# EAGLE library part 750342655 (library wurth_electronics_midcom_inc_v2-1)
Package Style: EE25/13/7 Mounting: THT Pins: 10 pins Bobbin: 070-4846 Best pinouts for production vary per application. Please contact Wurth Electronics Midcom, Inc. for assistance with your custom design. Website: Wurth Electronics Midcom <http://www.we-online.com/midcom> Contact us Wurth Electronics Midcom, Inc. 121 Airport Dr. Watertown, SD 57201 Phone: (605) 886-4385 Fax: (605) 886-4486 E-Mail: midcom@we-online.com
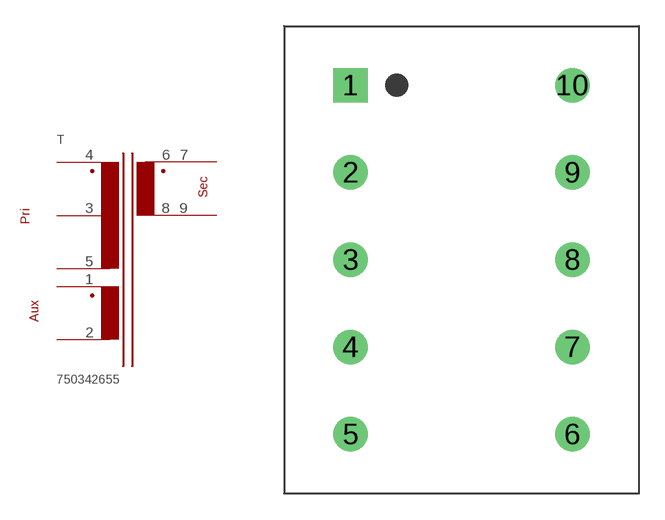
[diagram p75: symbol with the pads of EE25/13/7_THT_V_10PIN_(4846); footprint EE25/13/7_THT_V_10PIN_(4846)]

Designator prefix T

## 750342655  [EE25/13/7_THT_V_10PIN_(4846)]
1  1  pas
2  2  pas
3  3  pas
4  4  pas
5  5  pas
6  6  pas
7  7  pas
8  8  pas
9  9  pas

## Footprint EE25/13/7_THT_V_10PIN_(4846) (pad centres in mm)
Package Style: EE25/13/7 Mounting: THT Pins: 10 Bobbin: 070-4846
drill 1.321 square: 1 -6.35,10.008
drill 1.321: 2 -6.35,5.004; 3 -6.35,0; 4 -6.35,-5.004; 5 -6.35,-10.008; 6 6.35,-10.008; 7 6.35,-5.004; 8 6.35,0; 9 6.35,5.004; 10 6.35,10.008